# EAGLE library part 7SEG_DEV (library seven_segment)
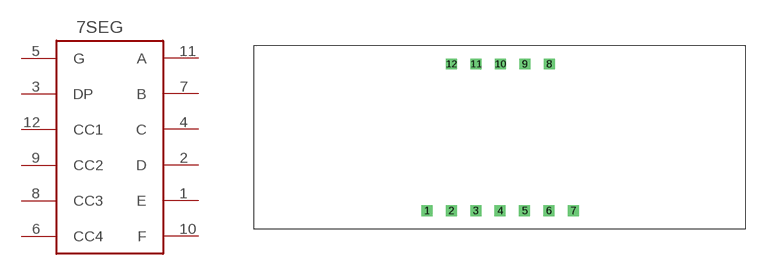
[diagram p0: symbol with the pads of 7SEG_PACK; footprint 7SEG_PACK]

Designator prefix 7SEG

## 7SEG_DEV  [7SEG_PACK]
1  E
2  D
3  DP
4  C
5  G
6  CC4
7  B
8  CC3
9  CC2
10  F
11  A
12  CC1

## Footprint 7SEG_PACK (pad centres in mm)
drill 0.635 pad 1.016 square: 1 17.958,1.93; 2 20.498,1.93; 3 23.038,1.93; 4 25.578,1.93; 5 28.118,1.93; 6 30.658,1.93; 7 33.198,1.93; 8 30.683,17.17; 9 28.143,17.17; 10 25.603,17.17; 11 23.063,17.17; 12 20.523,17.17